# EAGLE library part IPS1-105-01-L-D-RA_S (library con-samtec-ips1)
RECEPTACAL
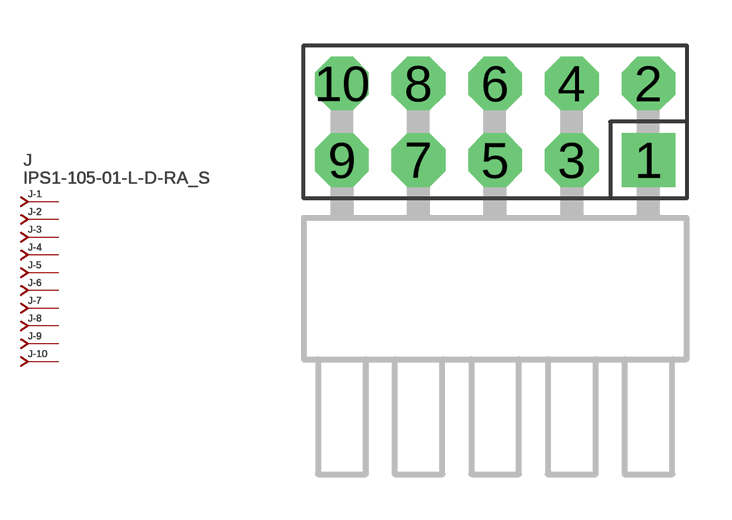
[diagram p3: symbol with the pads of IPS1-105-RA; footprint IPS1-105-RA]

Designator prefix J; gates -1=J-NV -2=J-N -3=J-N -4=J-N -5=J-N -6=J-N -7=J-N -8=J-N -9=J-N -10=J-N

## IPS1-105-01-L-D-RA_S  [IPS1-105-RA]
1  -1:J  pas
2  -2:J  pas
3  -3:J  pas
4  -4:J  pas
5  -5:J  pas
6  -6:J  pas
7  -7:J  pas
8  -8:J  pas
9  -9:J  pas
10  -10:J  pas

## Footprint IPS1-105-RA (pad centres in mm)
RECEPTACAL
drill 0.914 pad 1.778 square: 1 5.08,-1.27
drill 0.914 pad 1.778 octagon: 2 5.08,1.27; 3 2.54,-1.27; 4 2.54,1.27; 5 0,-1.27; 6 0,1.27; 7 -2.54,-1.27; 8 -2.54,1.27; 9 -5.08,-1.27; 10 -5.08,1.27